# EAGLE library part SLA-12VDC-SL-C (library SLA-12VDC-SL-C)
Relays General Purpose Non Latching 12VDC SPDT 30A (250VAC) Max Plugin RoHS Source: Datasheet <https://datasheet.lcsc.com/szlcsc/Ningbo-Songle-Relay-SLA-12VDC-SL-C_C125736.pdf>
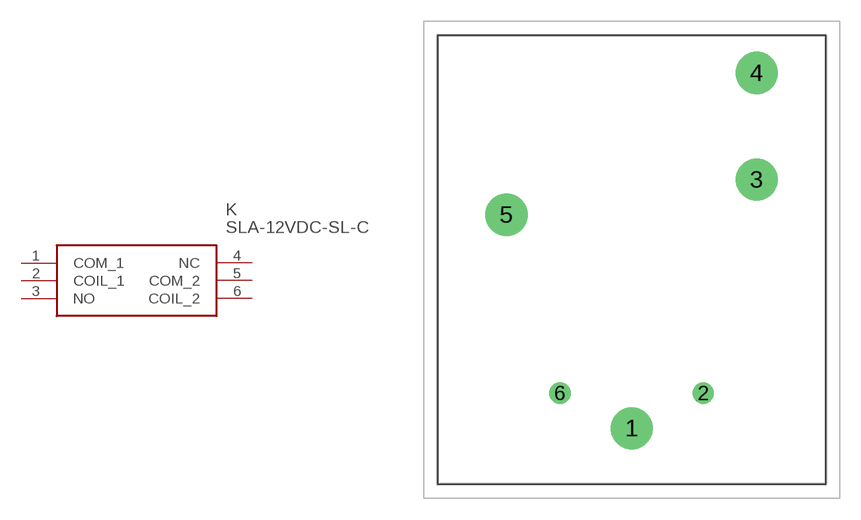
[diagram p0: symbol with the pads of SLA12VDCSLC; footprint SLA12VDCSLC]

Designator prefix K

## SLA-12VDC-SL-C (Description: Relays General Purpose Non Latching 12VDC SPDT 30A (250VAC) Max Plugin RoHS; Height: 20.4mm; Manufacturer_Name: Songle Relay; Manufacturer_Part_Number: SLA-12VDC-SL-C)  [SLA12VDCSLC]
1  COM_1
2  COIL_1
3  NO
4  NC  nc
5  COM_2
6  COIL_2

## Footprint SLA12VDCSLC (pad centres in mm)
SLA-12VDC-SL-C-2
drill 2 pad 2.8: 1 0,0; 3 8.9,17.7; 4 8.9,25.3; 5 -8.9,15.2
drill 1 pad 1.5: 2 5.1,2.5; 6 -5.1,2.5